# Altium schematic symbol library transistor_7_n.schlib: 1 symbol
Pins are listed as number, name and electrical type; pins without a type are passive.

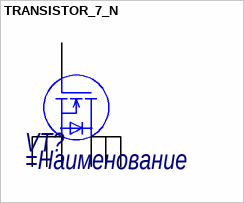
[diagram p0: symbol TRANSISTOR_7_N]

## TRANSISTOR_7_N
designator VT?
=Описание
pins: D, D, D, G, S, S   , S